# Altium schematic symbol library 2450AT18B100.SchLib: 1 symbol
Pins are listed as number, name and electrical type; pins without a type are passive.

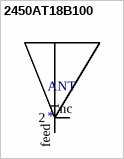
[diagram p0: symbol 2450AT18B100]

## 2450AT18B100
designator ANT
footprint 2450AT18B100 (2.4GHz Mini Antenna)
pins: feed 1, nc 2